# EAGLE library part POT_ALPS_RK27 (library wheat)
DUAL POT, ALPS RK27
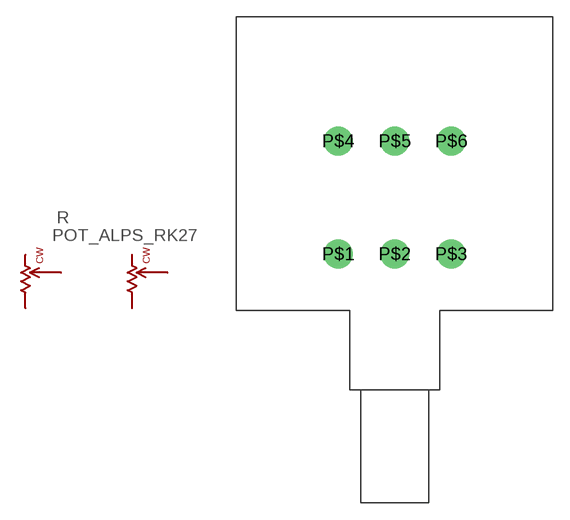
[diagram p51: symbol with the pads of POT_ALPS_RK27; footprint POT_ALPS_RK27]

Designator prefix R

## POT_ALPS_RK27A  [POT_ALPS_RK27]
P$1  CCW1  pas
P$2  W1  pas
P$3  CW1  pas
P$4  CCW2  pas
P$5  W2  pas
P$6  CW2  pas

## Footprint POT_ALPS_RK27 (pad centres in mm)
DUAL POT, ALPS RK27
drill 1.27 pad 2.54: P$1 -5,5; P$2 0,5; P$3 5,5; P$4 -5,15; P$5 0,15; P$6 5,15